# EAGLE library part TXB0104D (library debauer_ics)
4-BIT BIDIRECTIONAL VOLTAGE-LEVEL TRANSLATOR WITH AUTOMATIC DIRECTION SENSING AND ±15-kV ESD PROTECTION
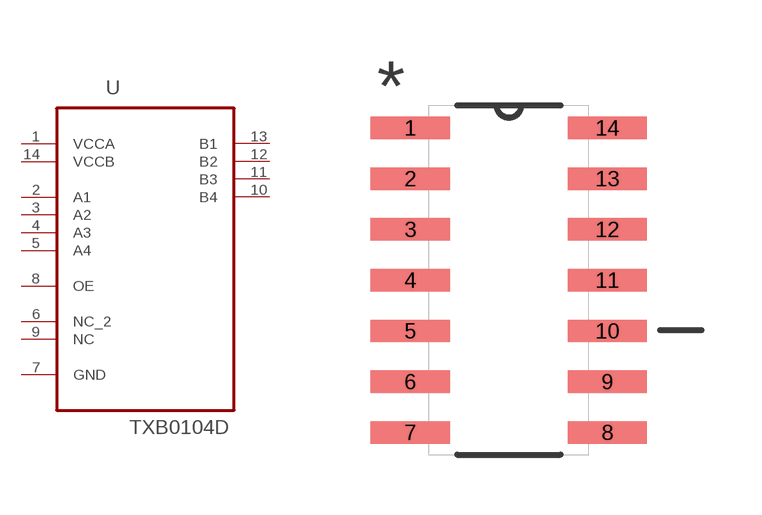
[diagram p24: symbol with the pads of SOIC127P600X175-14N; footprint SOIC127P600X175-14N]

Designator prefix U

## TXB0104D (MPN: TXB0104D; OC_FARNELL: 1607890; OC_NEWARK: 99K4464; PACKAGE: SOIC-14; SUPPLIER: TEXAS INSTRUMENTS)  [SOIC127P600X175-14N]
1  VCCA  pwr
2  A1  in
3  A2  in
4  A3  in
5  A4  in
6  NC_2  in
7  GND  pas
8  OE  in
9  NC  in
10  B4  out
11  B3  out
12  B2  out
13  B1  out
14  VCCB  pwr

## Footprint SOIC127P600X175-14N (pad centres in mm)
smd 1.981 x 0.559: 1 -2.464,3.81; 2 -2.464,2.54; 3 -2.464,1.27; 4 -2.464,0; 5 -2.464,-1.27; 6 -2.464,-2.54; 7 -2.464,-3.81; 8 2.464,-3.81; 9 2.464,-2.54; 10 2.464,-1.27; 11 2.464,0; 12 2.464,1.27; 13 2.464,2.54; 14 2.464,3.81